# Altium schematic symbol library SMA.Schlib: 1 symbol
Pins are listed as number, name and electrical type; pins without a type are passive.

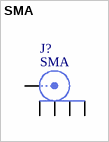
[diagram p0: symbol SMA]

## SMA
designator J?
SMA connector
pins: 1 X, 2 Y, 3 Y, 4 Y, 5 Y